# Altium footprint library Smirnov.PcbLib: 63 footprints (part 3 of 4)
Each footprint in its own frame and in the unit in brackets; x right, y up, seen from the top. Pads: shape width x height; smd on the part's side, far side on the other; paste and mask are expansions set on the pad; w line width, h text height; cw(c..) or ccw(c..) is an arc to the next point about the centre after c.
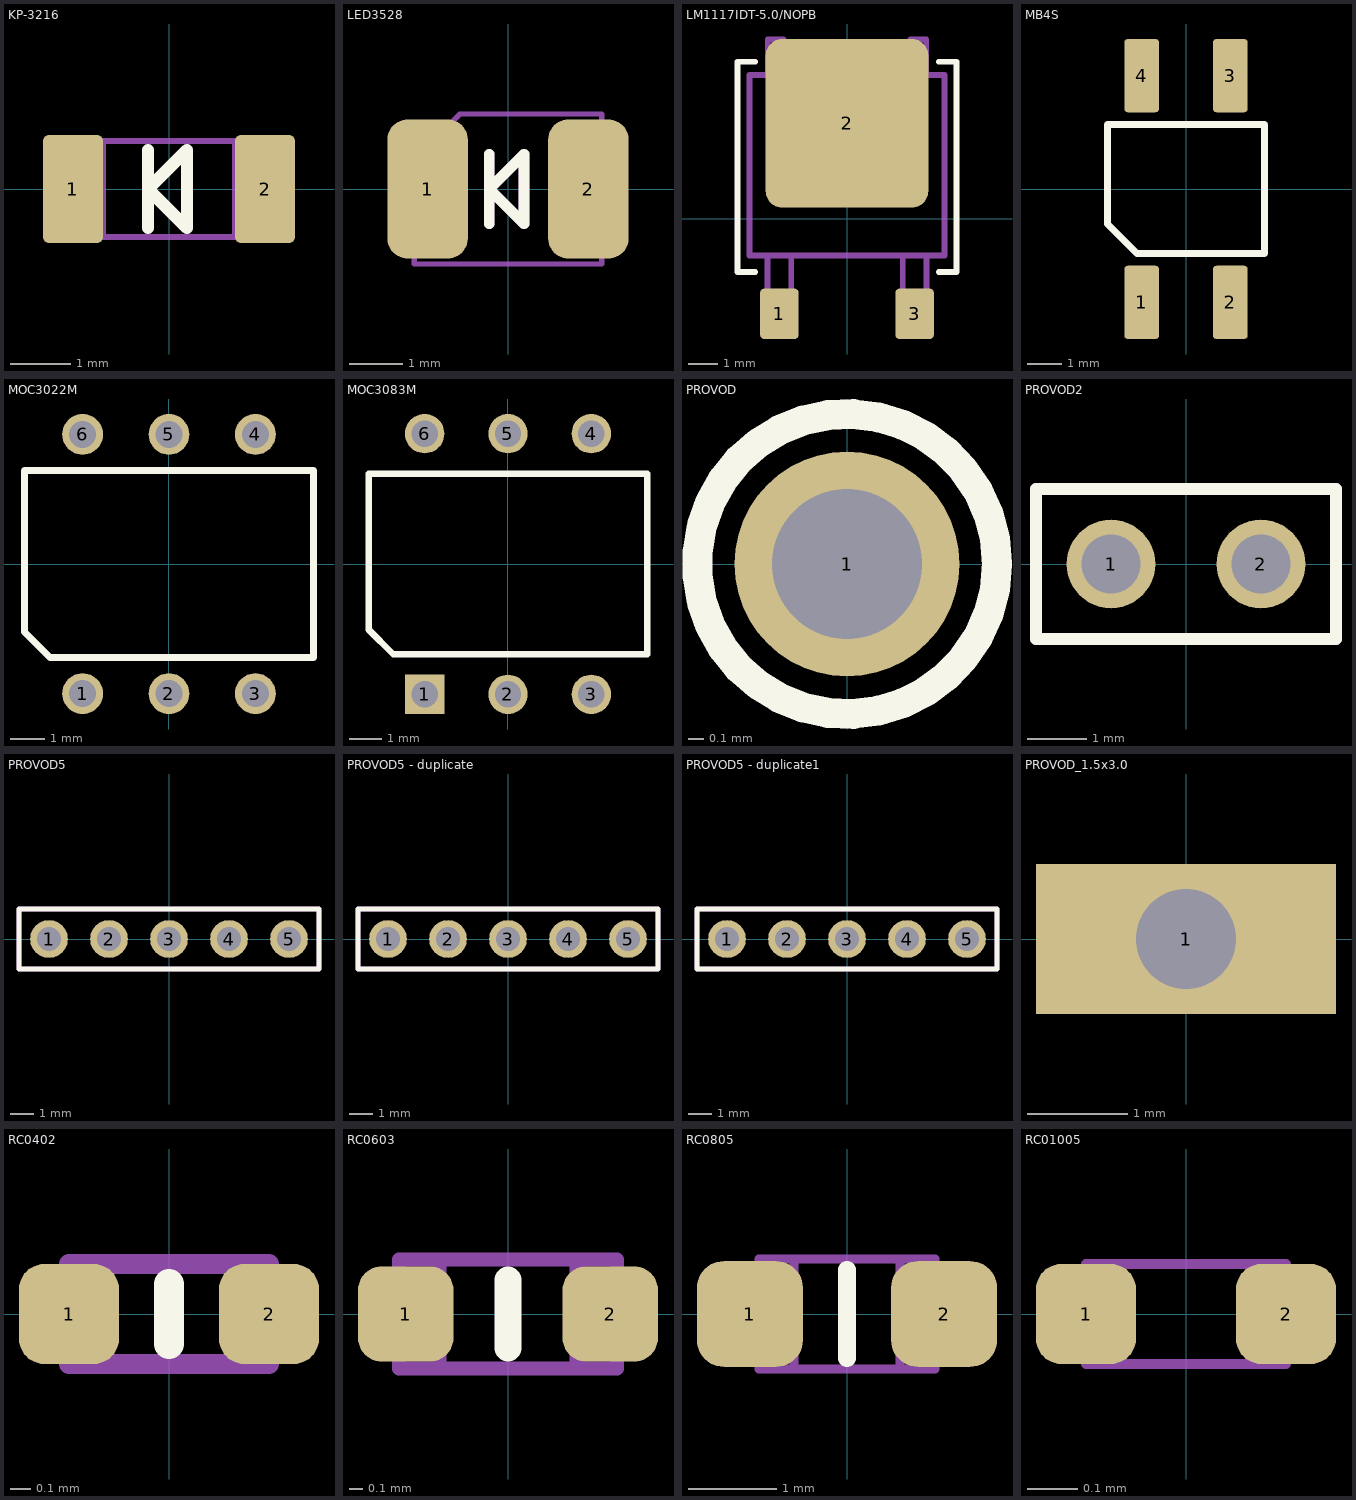
[diagram p2: the footprints below, top view; thin cyan lines are the x and y axes]

## KP-3216 [mm]
pads (2):
  rrect20% 1x1.8 smd: 1(-1.6,0) 2(1.6,0)
Top Overlay:
  lines w0.2: -0.35,-0.65 -0.35,0.65 ; 0.3,-0.65 -0.35,0 0.3,0.65 ; 0.3,-0.65 0.3,-0.65 ; 0.3,-0.65 0.3,0.65 ; 0.3,0.65 0.3,0.65
Mechanical 13:
  lines w0.1: -1.1,-0.8 -1.1,0.8 ; 1.1,-0.8 1.1,0.8 ; -1.6,-0.8 1.6,-0.8 1.6,0.8 -1.6,0.8 -1.6,-0.8

## LED3528 [mm]
pads (2):
  rrect50% 1.5x2.6 smd: 1(-1.5,0) 2(1.5,0)
Top Overlay:
  lines w0.2: -0.35,-0.65 -0.35,0.65 ; 0.3,-0.65 0.3,0.65 ; 0.3,-0.65 0.3,-0.65 ; 0.3,-0.65 -0.35,0 0.3,0.65 ; 0.3,0.65 0.3,0.65
Mechanical 13:
  lines w0.1: -1.75,-1.4 -1.75,0.55 -0.9,1.4 1.75,1.4 1.75,-1.4 -1.75,-1.4
  lines w0.2: -0.35,-0.65 -0.35,0.65 ; 0.3,-0.65 -0.35,0 0.3,0.65 ; 0.3,-0.65 0.3,-0.65 ; 0.3,-0.65 0.3,0.65 ; 0.3,0.65 0.3,0.65

## LM1117IDT-5.0/NOPB [mm]
pads (3):
  rrect20% 1.3x1.7 smd: 1(-2.285,-3.22) 3(2.285,-3.22)
  rrect20% 5.5x5.7 smd: 2(0,3.22)
Top Overlay:
  lines w0.2: -3.1,-1.8 -3.7,-1.8 -3.7,5.3 -3.1,5.3 ; 3.1,-1.8 3.7,-1.8 3.7,5.3 3.1,5.3
Mechanical 13:
  lines w0.2: -2.685,-1.25 -2.685,-3.85 -1.885,-3.85 -1.885,-1.25 ; -2.68,4.85 -2.68,6.05 -2.15,6.05 -2.15,5.7 2.15,5.7 2.15,6.05 2.68,6.05 2.68,4.85 ; 1.885,-1.25 1.885,-3.85 2.685,-3.85 2.685,-1.25 ; -3.3,-1.25 3.3,-1.25 3.3,4.85 -3.3,4.85 -3.3,-1.25

## MB4S [mm]
height 1.1
pads (4):
  rrect20% 1x2.1 smd mask+0.05: 1(-1.27,-3.25) 2(1.27,-3.25) 3(1.27,3.25) 4(-1.27,3.25)
Top Overlay:
  lines w0.2: -2.25,-1 -1.4,-1.85 2.25,-1.85 2.25,1.85 -2.25,1.85 -2.25,-1

## MOC3022M [mm]
pads (6):
  round 1.2 hole 0.8: 1(-2.54,-3.81) 2(0,-3.81) 3(2.54,-3.81) 4(2.54,3.81) 5(0,3.81) 6(-2.54,3.81)
Top Overlay:
  lines w0.2: -4.25,-2 -4.25,2.75 4.25,2.75 4.25,-2.75 -3.5,-2.75 -4.25,-2

## MOC3083M [mm]
pads (6):
  rect 1.2x1.2 hole 0.8: 1(-2.54,-3.973)
  round 1.2 hole 0.8: 2(0,-3.973) 3(2.54,-3.973) 4(2.54,3.973) 5(0,3.973) 6(-2.54,3.973)
Top Overlay:
  lines w0.2: -4.25,-2 -3.5,-2.75 4.25,-2.75 4.25,2.75 -4.25,2.75 -4.25,-2
3D body "DIP_3083M_ONS.step": height 3.66, standoff -2.54, extent -4.445,-4.1 4.445,4.028

## PROVOD [mm] "PROVOD"
pads (1):
  round 1.5 hole 1: 1(0,0)
Top Overlay:
  circle w0.2: c0,0 r1

## PROVOD2 [mm] "PROVOD2"
pads (2):
  round 1.5 hole 1: 1(-1.27,0) 2(1.27,0)
Top Overlay:
  lines w0.2: -2.54,-1.27 2.54,-1.27 2.54,1.27 -2.54,1.27 -2.54,-1.27
Mechanical 13:
  lines w0.2: -2.54,-1.27 2.54,-1.27 2.54,1.27 -2.54,1.27 -2.54,-1.27

## PROVOD5 [mm] "PROVOD2"
pads (5):
  round 1.6 hole 1: 1(-5.08,0) 2(-2.54,0) 3(0,0) 4(2.54,0) 5(5.08,0)
Top Overlay:
  lines w0.2: -6.35,-1.27 -6.35,1.27 6.35,1.27 6.35,-1.27 -6.35,-1.27
Mechanical 13:
  lines w0.2: -6.35,-1.27 -6.35,1.27 6.35,1.27 6.35,-1.27 -6.35,-1.27

## PROVOD5 - duplicate [mm] "PROVOD2"
pads (5):
  round 1.6 hole 1: 1(-5.08,0) 2(-2.54,0) 3(0,0) 4(2.54,0) 5(5.08,0)
Top Overlay:
  lines w0.2: -6.35,-1.27 -6.35,1.27 6.35,1.27 6.35,-1.27 -6.35,-1.27
Mechanical 13:
  lines w0.2: -6.35,-1.27 -6.35,1.27 6.35,1.27 6.35,-1.27 -6.35,-1.27

## PROVOD5 - duplicate1 [mm] "PROVOD2"
pads (5):
  round 1.6 hole 1: 1(-5.08,0) 2(-2.54,0) 3(0,0) 4(2.54,0) 5(5.08,0)
Top Overlay:
  lines w0.2: -6.35,-1.27 -6.35,1.27 6.35,1.27 6.35,-1.27 -6.35,-1.27
Mechanical 13:
  lines w0.2: -6.35,-1.27 -6.35,1.27 6.35,1.27 6.35,-1.27 -6.35,-1.27

## PROVOD_1.5x3.0 [mm] "PROVOD"
pads (1):
  rect 3x1.5 hole 1: 1(0,0)

## RC0402 [mm]
height 0.35
pads (2):
  rrect50% 0.5x0.5 smd: 1(-0.5,0) 2(0.5,0)
Top Overlay:
  lines w0.15: 0,-0.15 0,0.15
Mechanical 15:
  lines w0.1: -0.5,-0.25 -0.5,0.25 0.5,0.25 0.5,-0.25 -0.5,-0.25

## RC0603 [mm]
pads (2):
  rrect50% 0.7x0.7 smd: 1(-0.75,0) 2(0.75,0)
Top Overlay:
  lines w0.2: 0,-0.25 0,0.25
Mechanical 15:
  lines w0.1: -0.5,-0.4 -0.5,0.4 ; 0.5,-0.4 0.5,0.4 ; -0.8,-0.4 0.8,-0.4 0.8,0.4 -0.8,0.4 -0.8,-0.4

## RC0805 [mm]
pads (2):
  rrect50% 1.2x1.2 smd: 1(-1.1,0) 2(1.1,0)
Top Overlay:
  lines w0.2: 0,-0.5 0,0.5
Mechanical 15:
  lines w0.1: -0.6,-0.625 -0.6,0.625 ; 0.6,-0.625 0.6,0.625 ; -1,-0.625 -1,0.625 1,0.625 1,-0.625 -1,-0.625

## RC01005 [mm]
height 0.15
pads (2):
  rrect50% 0.2x0.2 smd: 1(-0.2,0) 2(0.2,0)
Mechanical 15:
  lines w0.02: -0.2,-0.1 0.2,-0.1 0.2,0.1 -0.2,0.1 -0.2,-0.1